# Altium schematic symbol library STLINK_Library.SchLib: 28 symbols
Pins are listed as number, name and electrical type; pins without a type are passive.

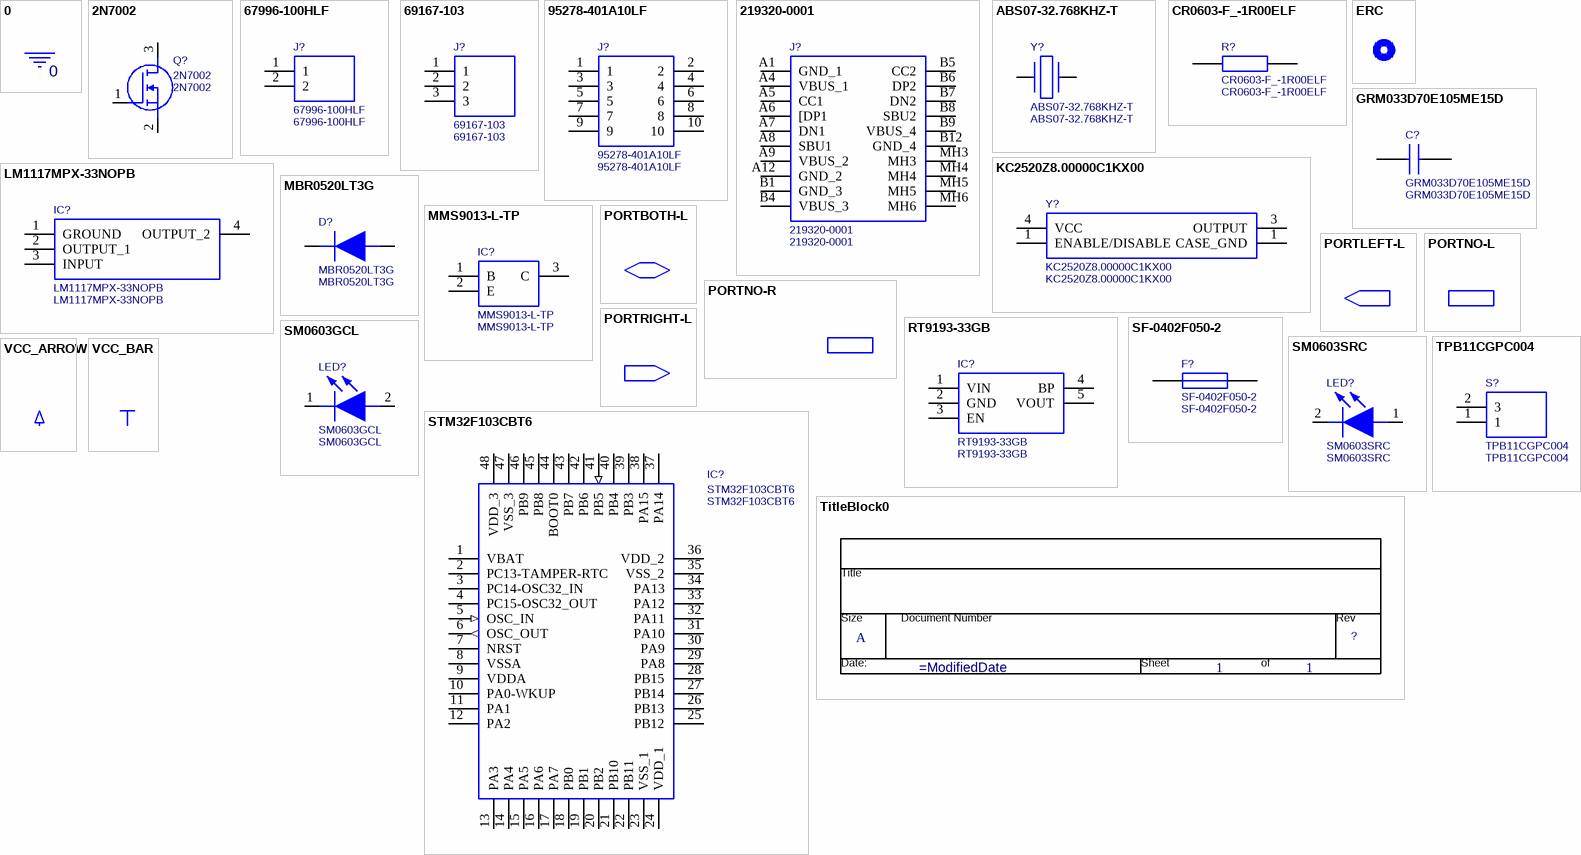
[diagram p0: symbols 0 to VCC_BAR]

## 0
designator *  NODENAME: 0  (hidden comment: *)  (graphical)
PSpiceOnly: TRUE
pins: GND (power) hidden to GND

## 2N7002
designator Q?
N-channel MOSFET,2N7002 0.115A 60V; Manufacturer_Name: onsemi; IDM: 800m; RON: 7; VTH: 1.75; VGSR: 20; VDS: 60; ID: 115m; IG: 100n; RJA: 625; SUBTYPE: N CHANNEL ENHANCEMENT MOSFET SMD; SLOPE: 7.5; POWER: 200m; TJ: 150; VGSF: 20; PACKAGE: SOT-23 3L; Height: 1.2 mm; Datasheet Link: https://www.onsemi.com/pub/Collateral/NDS7002A-D.PDF; Manufacturer_Part_Number: 2N7002; Mouser Price/Stock: https://www.mouser.co.uk/ProductDetail/onsemi-Fairchild/2N7002?qs=0dwsXDNhqlz66WJJhrTFjQ%3D%3D; Mouser Part Number: 512-2N7002; Value: 2N7002
footprint SOT96P240X120-3N
pins: 1 G, 2 S, 3 D

## 67996-100HLF
designator J?
BergStik<sup>&reg;</sup>, Board to Board connector, Unshrouded vertical header, Through Hole, Double Row, 0 Positions, 2.54 mm (0.100in) Pitch; Manufacturer_Name: Amphenol Communications Solutions; Height: 8.58 mm; Datasheet Link: https://cdn.amphenol-cs.com/media/wysiwyg/files/drawing/67996.pdf; Manufacturer_Part_Number: 67996-100HLF; Value: 67996-100HLF
footprint HDRV2W67P254_2X1_254X483X858P
pins: 1, 2

## 69167-103
designator J?
PV<sup>&reg;</sup>Wire-to-Board Connector System, 2 Wall Shrouded vertical header - Through Hole - Single row - 3 Positions, 2.54mm (0.100in) pitch.; Manufacturer_Name: Amphenol Communications Solutions; Height: 9.8 mm; Datasheet Link: https://cdn.amphenol-cs.com/media/wysiwyg/files/documentation/datasheet/boardwiretoboard/bwb_pv_wtb.pdf; Manufacturer_Part_Number: 69167-103; Mouser Price/Stock: https://www.mouser.co.uk/ProductDetail/Amphenol-FCI/69167-103?qs=4hg9R9g9MDsUjrzjhCmuRA%3D%3D; Mouser Part Number: 649-69167-103; Value: 69167-103
footprint SHDR3W64P0X254_1X3_762X516X980P
pins: 1, 2, 3

## 95278-401A10LF
designator J?
BergStik, Board to Board connector, Unshrouded Header, SMT, Double Row, 10 Positions, 2.54 mm Pitch, Vertical, Tin plating, 5.84 mm (0.23 in.) Mating; Manufacturer_Name: Amphenol Communications Solutions; Height: 10 mm; Datasheet Link: https://cdn.amphenol-cs.com/media/wysiwyg/files/drawing/95278.pdf; Manufacturer_Part_Number: 95278-401A10LF; Value: 95278-401A10LF
footprint 95278401A10LF
pins: 1, 2, 3, 4, 5, 6, 7, 8, 9, 10

## 219320-0001
designator J?
Universal Serial Bus (USB) Shielded I/O Receptacle, Type C, Vertical, Surface Mount, Height 8.8mm, 16 Circuits, Gold (Au) Flash Plating; Manufacturer_Name: Molex; Height: 9.05 mm; Datasheet Link: https://www.molex.com/content/dam/molex/molex-dot-com/products/automated/en-us/salesdrawingpdf/219/219320/2193200001_sd.pdf?inline; Manufacturer_Part_Number: 219320-0001; Mouser Price/Stock: https://www.mouser.co.uk/ProductDetail/Molex/219320-0001?qs=rQFj71Wb1eXha8qVBIXu3A%3D%3D; Mouser Part Number: 538-219320-0001; Value: 219320-0001
footprint 2193200001
pins: A1 GND_1, A4 VBUS_1, A5 CC1, A6 [DP1, A7 DN1, A8 SBU1, A9 VBUS_2, A12 GND_2, B1 GND_3, B4 VBUS_3, B5 CC2, B6 DP2, B7 DN2, B8 SBU2, B9 VBUS_4, B12 GND_4, MH3, MH4, MH5, MH6

## ABS07-32.768KHZ-T
designator Y?
32.768 kHz +/-20ppm Crystal 7pF 70 kOhms 2-SMD, No Lead; Manufacturer_Name: ABRACON; Height: 0.9 mm; Datasheet Link: https://abracon.com/Resonators/ABS07.pdf; Manufacturer_Part_Number: ABS07-32.768KHZ-T; Mouser Price/Stock: https://www.mouser.co.uk/ProductDetail/ABRACON/ABS07-32.768KHZ-T?qs=3SpAxaLJ01g8GJWeO3sA3Q%3D%3D; Mouser Part Number: 815-ABS07-32.768KHZT; Value: ABS07-32.768KHZ-T
footprint ABS07
pins: 1, 2

## CR0603-F_-1R00ELF
designator R?
Thick Film Resistors - SMD Res 0603 1R0 1% 100mW TCR200; Manufacturer_Part_Number: CR0603-F/-1R00ELF; Manufacturer_Name: Bourns; Height: 0.55 mm; Datasheet Link: https://www.bourns.com/pdfs/chpreztr.pdf; Mouser Price/Stock: https://www.mouser.co.uk/ProductDetail/Bourns/CR0603-F-1R00ELF?qs=W%2FMpXkg%252BdQ7nBNmKZ%2F9sTA%3D%3D; Mouser Part Number: 652-CR0603-F/1R00ELF; Value: CR0603-F_-1R00ELF
footprint RESC1608X55N
pins: 1, 2

## ERC
designator *  (value not drawn)  (graphical)

## GRM033D70E105ME15D
designator C?
Capacitor GRM03_0.09 L=0.6mm W=0.3mm T=0.3mm; Manufacturer_Name: Murata Electronics; Height: 0.33 mm; Datasheet Link: http://www.murata.com/~/media/webrenewal/support/library/catalog/products/capacitor/mlcc/c02e.pdf; Manufacturer_Part_Number: GRM033D70E105ME15D; Mouser Price/Stock: https://www.mouser.co.uk/ProductDetail/Murata-Electronics/GRM033D70E105ME15D?qs=r5DSvlrkXmLLNF3ZiIF79w%3D%3D; Mouser Part Number: 81-GRM033D70E105ME5D; Value: GRM033D70E105ME15D
footprint CAPC0603X33N
pins: 1, 2

## KC2520Z8.00000C1KX00
designator Y?
Standard Clock Oscillators 8 MHz 20 PPM 15 pF; Manufacturer_Name: Kyocera AVX; Height: 0.8 mm; Datasheet Link: https://componentsearchengine.com/Datasheets/1/KC2520Z8.00000C1KX00.pdf; Manufacturer_Part_Number: KC2520Z8.00000C1KX00; Mouser Price/Stock: https://www.mouser.co.uk/ProductDetail/KYOCERA-AVX/KC2520Z8.00000C1KX00?qs=rrS6PyfT74cbg89ZqaPNCA%3D%3D; Mouser Part Number: 581-KC2520Z800C1KX00; Value: KC2520Z8.00000C1KX00
footprint KC2520Z800000C1KX00
pins: 1 ENABLE/DISABLE, 1 CASE_GND, 3 OUTPUT, 4 VCC

## LM1117MPX-33NOPB
designator IC?
LDO Voltage Regulators 800-mA 15-V linear voltage regulator 800-mA 15-V linear voltage regulator; Manufacturer_Name: onsemi; Height: 1.8 mm; Datasheet Link: https://www.arrow.com/en/products/lm1117mpx-33nopb/on-semiconductor; Manufacturer_Part_Number: LM1117MPX-33NOPB; Mouser Price/Stock: https://www.mouser.co.uk/ProductDetail/onsemi/LM1117MPX-33NOPB?qs=DPoM0jnrROUIbzbQHFmeig%3D%3D; Mouser Part Number: 863-LM1117MPX-33NOPB; Value: LM1117MPX-33NOPB
footprint SOT230P700X180-4N
pins: 1 GROUND, 2 OUTPUT_1, 3 INPUT, 4 OUTPUT_2

## MBR0520LT3G
designator D?
ON SEMICONDUCTOR - MBR0520LT3G - RECTIFIER, SCHOTTKY, 0.5A, 20V, SOD-123; Manufacturer_Name: onsemi; Height: 1.35 mm; Datasheet Link: http://www.onsemi.com/pub/Collateral/MBR0520LT1-D.PDF; Manufacturer_Part_Number: MBR0520LT3G; Mouser Price/Stock: https://www.mouser.co.uk/ProductDetail/onsemi/MBR0520LT3G?qs=3JMERSakebrHITezQJBmeQ%3D%3D; Mouser Part Number: 863-MBR0520LT3G; Value: MBR0520LT3G
footprint SOD3716X135N
pins: 1 K, 2 A

## MMS9013-L-TP
designator IC?
Small Signal Bipolar Transistors; Manufacturer_Name: MCC; Height: 1.25 mm; Datasheet Link: https://mccsemi.com/pdf/Products/MMS9013(SOT-23).pdf; Manufacturer_Part_Number: MMS9013-L-TP; Mouser Price/Stock: https://www.mouser.co.uk/ProductDetail/Micro-Commercial-Components-MCC/MMS9013-L-TP?qs=P1JMDcb91o6OmgJiBYj6kQ%3D%3D; Mouser Part Number: 833-MMS9013L-TP; Value: MMS9013-L-TP
footprint SOT95P237X125-3N
pins: 1 B, 2 E, 3 C

## PORTBOTH-L
designator *  (value not drawn)  (graphical)
pins: PORTBOTH-L (io)

## PORTLEFT-L
designator *  (value not drawn)  (graphical)
pins: PORTLEFT-L (out)

## PORTNO-L
designator *  (value not drawn)  (graphical)
pins: PORTNO-L

## PORTNO-R
designator *  (value not drawn)  (graphical)
pins: PORTNO-R

## PORTRIGHT-L
designator *  (value not drawn)  (graphical)
pins: PORTRIGHT-L (in)

## RT9193-33GB
designator IC?
300mA, Ultra-Low Noise, Ultra-Fast CMOS LDO Regulator; Manufacturer_Name: RICHTEK; Height: 1.295 mm; Datasheet Link: http://www.richtek.com/assets/product_file/RT9193/DS9193-17.pdf; Manufacturer_Part_Number: RT9193-33GB; Mouser Price/Stock: https://www.mouser.co.uk/ProductDetail/Richtek/RT9193-33GB?qs=amGC7iS6iy8ybRcZ9Wn2ww%3D%3D; Mouser Part Number: 835-RT9193-33GB; Value: RT9193-33GB
footprint SOT94P279X130-5N
pins: 1 VIN, 2 GND, 3 EN, 4 BP, 5 VOUT

## SF-0402F050-2
designator F?
Fuse Chip Fast Acting 0.5A 24V SMD Solder Pad 0402 T/R UL; Manufacturer_Name: Bourns; Height: 0.4 mm; Datasheet Link: https://datasheet.datasheetarchive.com/originals/distributors/Datasheets-DGA13/1256866.pdf; Manufacturer_Part_Number: SF-0402F050-2; Mouser Price/Stock: https://www.mouser.co.uk/ProductDetail/Bourns/SF-0402F050-2?qs=GIQXYiEeHGDsZgBRav%2Fjqg%3D%3D; Mouser Part Number: 652-SF-0402F050-2; Value: SF-0402F050-2
footprint FUSC1005X40N
pins: 1, 2

## SM0603GCL
designator LED?
LED Uni-Color Green 575nm 2-Pin Chip 0603(1608Metric) T/R; Manufacturer_Name: Bivar; Height: 0.6 mm; Datasheet Link: https://www.mouser.ca/datasheet/2/50/SM0603GCL-3002107.pdf; Manufacturer_Part_Number: SM0603GCL; Mouser Price/Stock: https://www.mouser.co.uk/ProductDetail/Bivar/SM0603GCL?qs=jaLxTFIJCiusAuEoyf5wog%3D%3D; Mouser Part Number: 749-SM0603GCL; Value: SM0603GCL
footprint LEDC1608X60N
pins: 1 K, 2 A

## SM0603SRC
designator LED?
Standard LEDs - SMD Super Red 660nm Water Clear SURFACE MOUNT LED RED, 0603 PACKAGE; Manufacturer_Name: Bivar; Height: 0.8 mm; Datasheet Link: https://componentsearchengine.com/Datasheets/1/SM0603SRC.pdf; Manufacturer_Part_Number: SM0603SRC; Mouser Price/Stock: https://www.mouser.co.uk/ProductDetail/Bivar/SM0603SRC?qs=EYSZfI0QbkaJbRyUf4vVYw%3D%3D; Mouser Part Number: 749-SM0603SRC; Value: SM0603SRC
footprint SM0603SRC
pins: 1 A, 2 K

## STM32F103CBT6
designator IC?
STM32F103CBT6, 32 bit ARM Cortex M3 , 72MHz, 128 kB ROM , 20 kB RAM USB CAN I2C, 48 LQFP; Manufacturer_Name: STMicroelectronics; VDD_MIN: -0.3; VDD_MAX: 4; ICC: 150m; IOUT_MIN: 25m; RJA: 55; SUBTYPE: MCU SMD; POWER: 363m; TJ: 150; TECHNOLOGY: CMOS_TTL; IOUT_MAX: 25m; PACKAGE: LQFP-48; Height: 1.6 mm; Datasheet Link: http://www.st.com/st-web-ui/static/active/en/resource/technical/document/datasheet/CD00161566.pdf; Manufacturer_Part_Number: STM32F103CBT6; Mouser Price/Stock: https://www.mouser.co.uk/ProductDetail/STMicroelectronics/STM32F103CBT6?qs=WxFF5lh7QM3goh6GV5Ogig%3D%3D; Mouser Part Number: 511-STM32F103CBT6; Value: STM32F103CBT6
footprint QFP50P900X900X160-48N
pins: 1 VBAT (power), 2 PC13-TAMPER-RTC, 3 PC14-OSC32_IN, 4 PC15-OSC32_OUT, 5 OSC_IN (in), 6 OSC_OUT (out), 7 NRST, 8 VSSA (power), 9 VDDA (power), 10 PA0-WKUP, 11 PA1, 12 PA2, 13 PA3, 14 PA4, 15 PA5, 16 PA6, 17 PA7, 18 PB0, 19 PB1, 20 PB2, 21 PB10, 22 PB11, 23 VSS_1 (power), 24 VDD_1 (power), 25 PB12 (power), 26 PB13 (power), 27 PB14, 28 PB15, 29 PA8, 30 PA9, 31 PA10, 32 PA11, 33 PA12, 34 PA13, 35 VSS_2, 36 VDD_2, 37 PA14 (power), 38 PA15 (power), 39 PB3, 40 PB4, 41 PB5 (in), 42 PB6, 43 PB7, 44 BOOT0, 45 PB8, 46 PB9, 47 VSS_3, 48 VDD_3

## TitleBlock0
designator *  Page Size: A  Page Number: 1  (hidden comment: *)  (graphical)
Page Create Date: March  8, 1995; RevCode: ?; Page Count: 1; Page Modify Date: =ModifiedDate
text: Title; Size; Document Number; Rev; Date:; Sheet; of

## TPB11CGPC004
designator S?
Pushbutton Switches SP MOM BLK ACT UNTH; Manufacturer_Name: TE Connectivity; Height: 17.7038 mm; Datasheet Link: https://componentsearchengine.com/Datasheets/1/TPB11CGPC004.pdf; Manufacturer_Part_Number: TPB11CGPC004; Mouser Price/Stock: https://www.mouser.com/Search/Refine.aspx?Keyword=506-TPB11CGPC004; Mouser Part Number: 506-TPB11CGPC004; Value: TPB11CGPC004
footprint TPB11CGPC004
pins: 1, 2 3

## VCC_ARROW
designator *  (value not drawn)  (graphical)
pins: $PIN0 (power) hidden to $PIN0

## VCC_BAR
designator *  (value not drawn)  (graphical)
pins: $PIN0 (power) hidden to $PIN0